# EAGLE library part HINATA (library Self-made parts)
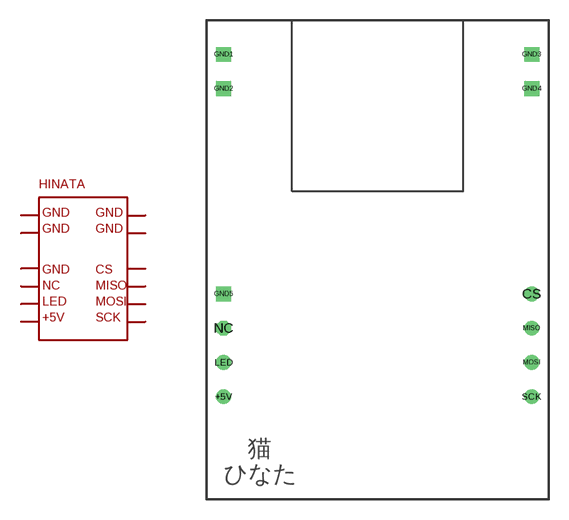
[diagram p1: symbol with the pads of HINATA; footprint HINATA]

Designator prefix -

## HINATA  [HINATA]
+5V  +5V
CS  CS
GND1  GND1
GND2  GND2
GND3  GND3
GND4  GND4
GND5  GND5
LED  LED
MISO  MISO
MOSI  MOSI
NC  NC  nc
SCK  SCK

## Footprint HINATA (pad centres in mm)
drill 0.6: +5V 1.27,7.62; CS 24.13,15.24; LED 1.27,10.16; MISO 24.13,12.7; MOSI 24.13,10.16; SCK 24.13,7.62
drill 0.6 square: GND1 1.27,33.02; GND2 1.27,30.48; GND3 24.13,33.02; GND4 24.13,30.48; GND5 1.27,15.24
drill 0.6 octagon: NC 1.27,12.7